# Altium footprint library PcbLib1.PcbLib: 13 footprints
Each footprint in its own frame and in the unit in brackets; x right, y up, seen from the top. Pads: shape width x height; smd on the part's side, far side on the other; paste and mask are expansions set on the pad; w line width, h text height; cw(c..) or ccw(c..) is an arc to the next point about the centre after c.
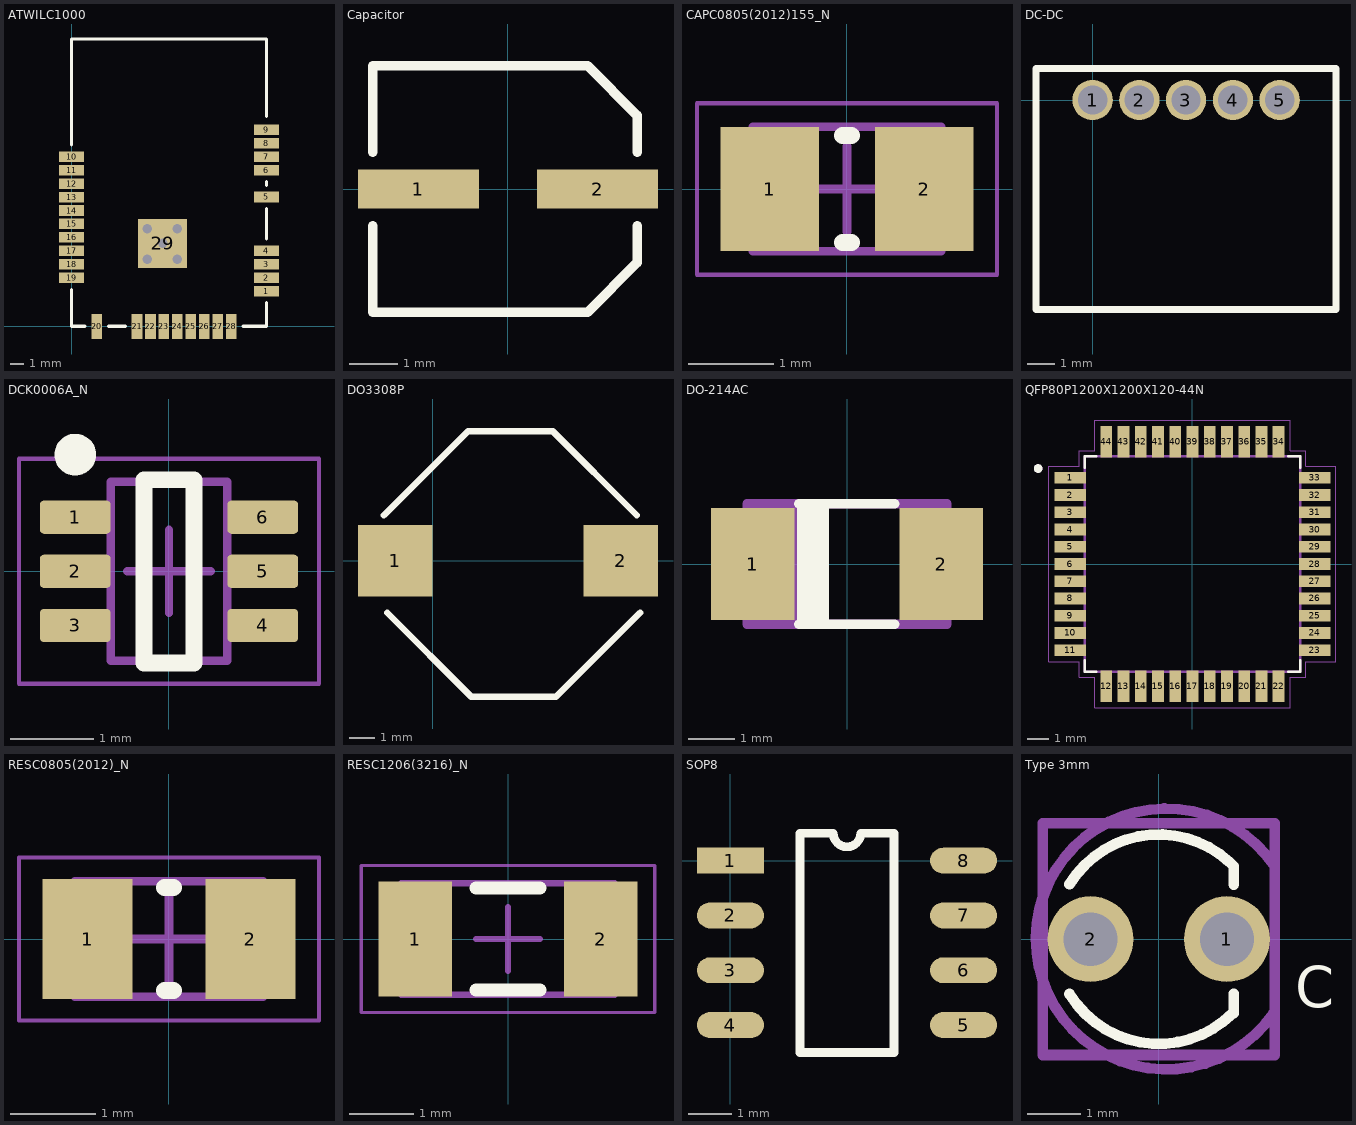
[diagram p0: the footprints below, top view; thin cyan lines are the x and y axes]

## ATWILC1000 [mm]
pads (29):
  rect 1.9x0.8 smd: 1(14.73,2.67) 2(14.73,3.686) 3(14.73,4.702) 4(14.73,5.718) 5(14.73,9.782) 6(14.73,11.814) 7(14.73,12.83) 8(14.73,13.846) 9(14.73,14.862) 10(0,12.824) 11(0,11.808) 12(0,10.792) 13(0,9.776) 14(0,8.76) 15(0,7.744) 16(0,6.728) 17(0,5.712) 18(0,4.696) 19(0,3.68)
  rect 0.8x1.9 smd: 20(1.9,0) 21(4.948,0) 22(5.964,0) 23(6.98,0) 24(7.996,0) 25(9.012,0) 26(10.028,0) 27(11.044,0) 28(12.06,0)
  rect 3.7x3.7 smd: 29(6.88,6.27)
via 6.88,6.27 diameter 1.27 hole 0.711
via 5.715,5.08 diameter 1.27 hole 0.711
via 7.996,5.08 diameter 1.27 hole 0.711
via 8.001,7.366 diameter 1.27 hole 0.711
via 5.715,7.366 diameter 1.27 hole 0.711
Top Overlay:
  lines w0.254: 0,2.794 0,0 1.016,0 ; 0,13.716 0,21.72 14.73,21.72 14.73,15.875 ; 2.794,0 4.064,0 ; 12.954,0 14.732,0 ; 14.73,0 14.73,1.778 ; 14.73,8.89 14.732,6.604 ; 14.732,10.668 14.732,10.922

## Capacitor [mm]
pads (2):
  rect 2.5x0.8 smd: 1(-1.85,0) 2(1.85,0)
Top Overlay:
  lines w0.2: -2.794,-0.762 -2.794,-2.547 1.644,-2.547 1.651,-2.54 2.667,-1.524 ; -2.794,0.762 -2.794,2.547 1.644,2.547 1.651,2.54 2.667,1.524 ; 2.671,-0.762 2.674,-1.484 ; 2.671,0.762 2.674,1.484

## CAPC0805(2012)155_N [mm] "Chip Capacitor, Body 2.0x1.2mm, Height 1.55mm, IPC Medium Density"
height 1.55
pads (2):
  rect 1.15x1.45 smd: 1(-0.9,0) 2(0.9,0)
Top Overlay:
  lines w0.2: -0.05,-0.625 0.05,-0.625 ; -0.05,0.625 0.05,0.625
Mechanical 13:
  lines w0.1: -1.1,-0.725 -1.1,0.725 1.1,0.725 1.1,-0.725 -1.1,-0.725
Mechanical 15:
  lines w0.05: -1.75,-1 -1.75,1 1.75,1 1.75,-1 -1.75,-1
  lines w0.1: -0.5,0 0.5,0 ; 0,-0.5 0,0.5
3D body: height 1.55, standoff 0, extent -0.6,-0.725 0.6,0.725
3D body: height 1.55, standoff 0, extent -1.1,-0.725 -0.6,0.725
3D body: height 1.55, standoff 0, extent 0.6,-0.725 1.1,0.725

## DC-DC [mm]
pads (5):
  round 1.47 hole 1.07: 1(0,0) 2(1.7,0) 3(3.4,0) 4(5.11,0) 5(6.81,0)
Top Overlay:
  lines w0.254: 8.86,-7.62 -2.06,-7.62 -2.06,1.14 8.86,1.14 ; 8.862,-7.62 8.862,1.14

## DCK0006A_N [mm] "SOT23, 6-Leads, Body 2.15x1.4mm, Pitch 0.65mm, IPC Medium Density"
height 1.1
pads (6):
  rrect25% 0.85x0.4 smd: 1(-1.125,0.65) 2(-1.125,0) 3(-1.125,-0.65) 4(1.125,-0.65) 5(1.125,0) 6(1.125,0.65)
Top Overlay:
  circle w0.25: c-1.125,1.4 r0.125
  lines w0.2: -0.3,-1.1 0.3,-1.1 0.3,1.1 -0.3,1.1 -0.3,-1.1
Mechanical 1:
  text ".Designator" at -0.635,-0.127 h0.3
Mechanical 13:
  lines w0.1: -0.7,-1.075 -0.7,1.075 0.7,1.075 0.7,-1.075 -0.7,-1.075
Mechanical 15:
  lines w0.05: -1.8,-1.35 -1.8,1.35 1.8,1.35 1.8,-1.35 -1.8,-1.35
  lines w0.1: -0.5,0 0.5,0 ; 0,-0.5 0,0.5
3D body "DCK0006AakaMAA06.stp": height 0.94, standoff -0.01, extent -1.14,-1 1.14,1

## DO3308P [mm]
pads (2):
  rect 2.92x2.79 smd: 1(-1.46,0) 2(7.37,0)
Top Overlay:
  lines w0.254: -1.905,1.778 1.397,5.08 4.699,5.08 8.001,1.778 ; -1.778,-2.032 1.524,-5.334 4.826,-5.334 8.128,-2.032

## DO-214AC [mm]
pads (2):
  rect 1.8x2.4 smd: 1(-2.025,0) 2(2.025,0)
Top Overlay:
  region: -1.065,1.225 -0.39,1.225 -0.39,-1.225 -1.065,-1.225
  lines w0.203: -1.035,-1.3 1.025,-1.3 ; -1.035,1.3 1.025,1.3
Mechanical 13:
  region: -1.75,1.225 -1.075,1.225 -1.075,-1.225 -1.75,-1.225
  region: 2.825,-1.1 2.175,-1.1 2.175,1.1 2.825,1.1
  region: -2.825,1.1 -2.175,1.1 -2.175,-1.1 -2.825,-1.1
  region: -1.75,1.225 -1.075,1.225 -1.075,-1.225 -1.75,-1.225
  region: 2.825,-1.1 2.175,-1.1 2.175,1.1 2.825,1.1
  region: -2.825,1.1 -2.175,1.1 -2.175,-1.1 -2.825,-1.1
  lines w0.203: -2.15,-1.3 -2.15,1.3 ; -2.15,-1.3 2.15,-1.3 ; -2.15,-1.3 -2.15,1.3 ; -2.15,-1.3 2.15,-1.3 ; -2.15,1.3 2.15,1.3 ; -2.15,1.3 2.15,1.3 ; 2.15,-1.3 2.15,1.3 ; 2.15,-1.3 2.15,1.3

## PCBComponent_1 [mm]

## QFP80P1200X1200X120-44N [mm]
pads (44):
  rect 1.47x0.55 smd: 1(-5.67,4) 2(-5.67,3.2) 3(-5.67,2.4) 4(-5.67,1.6) 5(-5.67,0.8) 6(-5.67,0) 7(-5.67,-0.8) 8(-5.67,-1.6) 9(-5.67,-2.4) 10(-5.67,-3.2) 11(-5.67,-4) 23(5.67,-4) 24(5.67,-3.2) 25(5.67,-2.4) 26(5.67,-1.6) 27(5.67,-0.8) 28(5.67,0) 29(5.67,0.8) 30(5.67,1.6) 31(5.67,2.4) 32(5.67,3.2) 33(5.67,4)
  rect 0.55x1.47 smd: 12(-4,-5.67) 13(-3.2,-5.67) 14(-2.4,-5.67) 15(-1.6,-5.67) 16(-0.8,-5.67) 17(0,-5.67) 18(0.8,-5.67) 19(1.6,-5.67) 20(2.4,-5.67) 21(3.2,-5.67) 22(4,-5.67) 34(4,5.67) 35(3.2,5.67) 36(2.4,5.67) 37(1.6,5.67) 38(0.8,5.67) 39(0,5.67) 40(-0.8,5.67) 41(-1.6,5.67) 42(-2.4,5.67) 43(-3.2,5.67) 44(-4,5.67)
Top Overlay:
  circle w0.2: c-7.16,4.43 r0.1
  lines w0.127: -5,-4.46 -5,-5 -4.46,-5 ; -5,4.46 -5,5 -4.46,5 ; 4.46,-5 5,-5 5,-4.46 ; 4.46,5 5,5 5,4.46
Mechanical 13:
  circle w0.2: c-7.16,4.43 r0.1
  circle w0.2: c-7.16,4.43 r0.1
  lines w0.127: -5,-5 -5,5 ; -5,-5 5,-5 ; -5,-5 -5,5 ; -5,-5 5,-5 ; -5,5 5,5 ; -5,5 5,5 ; 5,-5 5,5 ; 5,-5 5,5
Mechanical 15:
  lines w0.05: -6.66,-4.53 -6.66,4.53 -5.25,4.53 -5.25,5.25 -4.53,5.25 -4.53,6.66 4.53,6.66 4.53,5.25 5.25,5.25 5.25,4.53 6.66,4.53 6.66,-4.53 5.25,-4.53 5.25,-5.25 4.53,-5.25 4.53,-6.66 -4.53,-6.66 -4.53,-5.25 -5.25,-5.25 -5.25,-4.53 -6.66,-4.53

## RESC0805(2012)_N [mm] "Chip Resistor, Body 2.0x1.3mm, IPC Medium Density"
height 0.7
pads (2):
  rect 1.05x1.4 smd: 1(-0.95,0) 2(0.95,0)
Top Overlay:
  lines w0.2: -0.05,-0.6 0.05,-0.6 ; -0.05,0.6 0.05,0.6
Mechanical 13:
  lines w0.1: -1.1,-0.675 -1.1,0.675 1.1,0.675 1.1,-0.675 -1.1,-0.675
Mechanical 15:
  lines w0.05: -1.75,-0.95 -1.75,0.95 1.75,0.95 1.75,-0.95 -1.75,-0.95
  lines w0.1: -0.5,0 0.5,0 ; 0,-0.5 0,0.5
3D body: height 0.7, standoff 0, extent 0.68,-0.675 1.1,0.675
3D body: height 0.7, standoff 0, extent -0.68,-0.675 0.68,0.675
3D body: height 0.7, standoff 0, extent -1.1,-0.675 -0.68,0.675

## RESC1206(3216)_N [mm] "Chip Resistor, Body 3.2x1.6mm, IPC Medium Density"
height 0.75
pads (2):
  rect 1.15x1.8 smd: 1(-1.45,0) 2(1.45,0)
Top Overlay:
  lines w0.2: -0.5,-0.8 0.5,-0.8 ; -0.5,0.8 0.5,0.8
Mechanical 13:
  lines w0.1: -1.675,-0.875 1.675,-0.875 1.675,0.875 -1.675,0.875 -1.675,-0.875
Mechanical 15:
  lines w0.05: -2.3,-1.15 2.3,-1.15 2.3,1.15 -2.3,1.15 -2.3,-1.15
  lines w0.1: -0.5,0 0.5,0 ; 0,-0.5 0,0.5
3D body: height 0.75, standoff 0, extent 1.181,-0.874 1.675,0.875
3D body: height 0.75, standoff 0, extent -1.18,-0.874 1.181,0.875
3D body: height 0.75, standoff 0, extent -1.674,-0.874 -1.18,0.875

## SOP8 [mm]
pads (8):
  rect 1.55x0.6 smd: 1(0,0)
  oval 1.55x0.6 smd: 2(0,-1.27) 3(0,-2.54) 4(0,-3.81) 5(5.4,-3.81) 6(5.4,-2.54) 7(5.4,-1.27) 8(5.4,0)
Top Overlay:
  lines w0.2: 1.61,-4.445 3.79,-4.445 3.79,0.635 3.017,0.635 cw(c2.7,0.635) 2.382,0.635 1.61,0.635 1.61,-4.445

## Type 3mm [mm] "THT, LED-3mm, 2pin- Body 4.15mm(max)"
height 10.9
pads (2):
  round 1.6 hole 1: 1(1.27,0) 2(-1.27,0)
Top Overlay:
  lines w0.2: -1.661,-1.022 ccw(c0,0) 1.379,-1.379 ; -1.661,1.022 cw(c0,0) 1.312,1.443 1.397,1.358 1.397,1.016 ; 1.397,-1.379 1.397,-1.016
  text "C" at 2.54,-1.27 h0.76
Mechanical 13:
  lines w0.2: -2.159,-2.159 2.159,-2.159 2.159,2.159 -2.159,2.159 -2.159,-2.159
Mechanical 15:
  lines w0.2: 2.139,-1.38 cw(c0.143,0.003) 2.159,1.358 2.159,-1.379
  text "C" at 2.54,-1.27 h0.76
  text ".Designator" at 0,0 h0.76
3D body "WL-TMRW_3mm.stp": height 10.5, standoff -21.2, extent -1.934,-1.939 1.87,1.94